# EAGLE library part LM2776 (library dword1511-pmic-dcdc)
Switched capacitor inverter
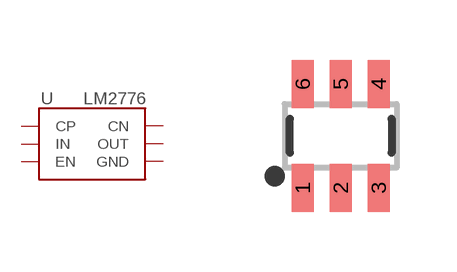
[diagram p0: symbol with the pads of SOT-23-6; footprint SOT-23-6]

Designator prefix U

## LM2776  [SOT-23-6]
1  OUT  out
2  GND  pwr
3  IN  pwr
4  EN  in
5  CP
6  CN

## Footprint SOT-23-6 (pad centres in mm)
smd 0.55 x 1.2: 1 -0.95,-1.3; 2 0,-1.3; 3 0.95,-1.3; 4 0.95,1.3; 5 0,1.3; 6 -0.95,1.3